# Altium schematic symbol library CN HDR 8POS Molex 43650-0812 (R).Schlib: 1 symbol
Pins are listed as number, name and electrical type; pins without a type are passive.

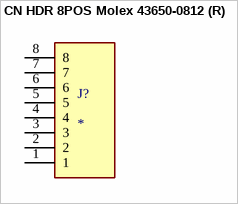
[diagram p0: symbol CN HDR 8POS Molex 43650-0812 (R)]

## CN HDR 8POS Molex 43650-0812 (R)
designator J?
Molex 43650-0812 8POS Microfit / single row, right angle, surface mount
footprint CN 43650-0812 (Molex Micro-Fit 043650 SMD 8CKT)
pins: 1, 2, 3, 4, 5, 6, 7, 8